# Altium schematic symbol library TXS0108E_PW_20.SchLib: 1 symbol
Pins are listed as number, name and electrical type; pins without a type are passive.

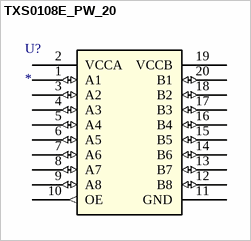
[diagram p0: symbol TXS0108E_PW_20]

## TXS0108E_PW_20
designator U?
8-Bit Bi-directional, Level-Shifting, Voltage Translator for Open-Drain and Push-Pull Applications; Manufacturer_Part_Number: txs0108e_pw_20; GENERIC_PART_NUMBER: TXS0108E; Vendor: Texas Instruments; PACKAGE_DESIGNATOR: PW; PIN_COUNT: 20; FAMILY_NAME: AUTO DIRECTION SENSING DUAL SUPPLY TRANSLATOR; INDUSTRY_STD_PKG_TYPE: TSSOP; Datasheet URL: http://www.ti.com/lit/gpn/TXS0108E; Manufacturer: Texas Instruments; RefDes: RefDes; Type: DEV; Value: Value
footprint PW20
pins: 1 A1 (io), 2 VCCA (power), 3 A2 (io), 4 A3 (io), 5 A4 (io), 6 A5 (io), 7 A6 (io), 8 A7 (io), 9 A8 (io), 10 OE (out), 11 GND (power), 12 B8 (io), 13 B7 (io), 14 B6 (io), 15 B5 (io), 16 B4 (io), 17 B3 (io), 18 B2 (io), 19 VCCB (power), 20 B1 (io)